# Altium schematic symbol library Header Pin.SchLib: 9 symbols
Pins are listed as number, name and electrical type; pins without a type are passive.

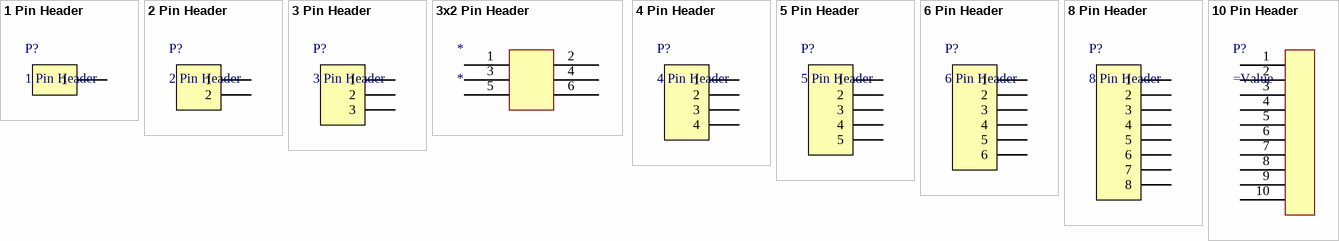
[diagram p0: symbols 1 Pin Header to 10 Pin Header]

## 1 Pin Header
designator P?
Value: 1 Pin Header
footprint PCB - CONNECTOR - HEADER PIN 01
pins: 1

## 2 Pin Header
designator P?
Value: 2 Pin Header
footprint PCB - CONNECTOR - HEADER PIN 02
pins: 1, 2

## 3 Pin Header
designator P?
Value: 3 Pin Header
footprint PCB - CONNECTOR - HEADER PIN 03
pins: 1, 2, 3

## 3x2 Pin Header
designator *
footprint PCB - CONNECTOR - HEADER PIN 3x2
pins: 1, 2, 3, 4, 5, 6

## 4 Pin Header
designator P?
Value: 4 Pin Header
footprint PCB - CONNECTOR - HEADER PIN 04
pins: 1, 2, 3, 4

## 5 Pin Header
designator P?
Value: 5 Pin Header
footprint PCB - CONNECTOR - HEADER PIN 05
pins: 1, 2, 3, 4, 5

## 6 Pin Header
designator P?
Value: 6 Pin Header
footprint PCB - CONNECTOR - HEADER PIN 06
pins: 1, 2, 3, 4, 5, 6

## 8 Pin Header
designator P?
Value: 8 Pin Header
footprint PCB - CONNECTOR - HEADER PIN 08
pins: 1, 2, 3, 4, 5, 6, 7, 8

## 10 Pin Header
designator P?
footprint PCB - CONNECTOR - HEADER PIN 10
pins: 1, 2, 3, 4, 5, 6, 7, 8, 9, 10